# EAGLE library part XF2*-21? (library con-omron)
OMRON FPC Connector Source : http://www.omron.com/ecb/products/pdf/fpc.pdf
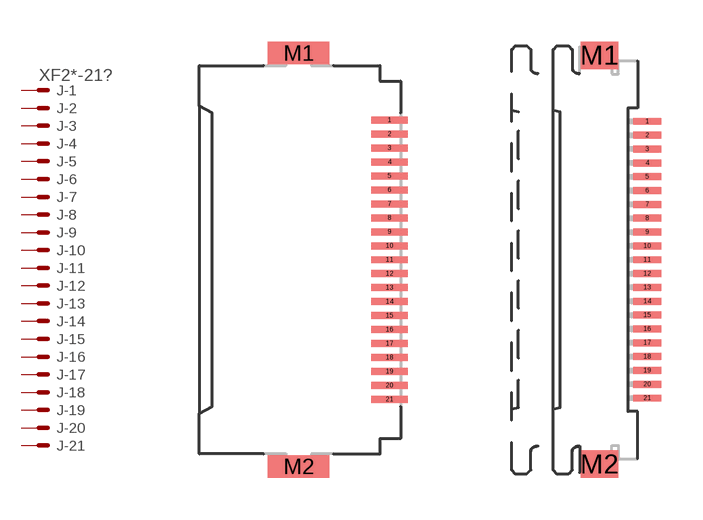
[diagram p14: symbol with the pads of XF2H-2115-1LW; footprints XF2H-2115-1LW, XF2L-2125-1]

Designator prefix J; gates -1=PV -2=P -3=P -4=P -5=P -6=P -7=P -8=P -9=P -10=P -11=P -12=P -13=P -14=P -15=P -16=P -17=P -18=P -19=P -20=P -21=P

## XF2H-2115-1LW (OC_FARNELL: unknown; OC_NEWARK: unknown)  [XF2H-2115-1LW]
1  -1:MSV  pas
2  -2:MS  pas
3  -3:MS  pas
4  -4:MS  pas
5  -5:MS  pas
6  -6:MS  pas
7  -7:MS  pas
8  -8:MS  pas
9  -9:MS  pas
10  -10:MS  pas
11  -11:MS  pas
12  -12:MS  pas
13  -13:MS  pas
14  -14:MS  pas
15  -15:MS  pas
16  -16:MS  pas
17  -17:MS  pas
18  -18:MS  pas
19  -19:MS  pas
20  -20:MS  pas
21  -21:MS  pas

## XF2L-2125-1 (MPN: XF2L-2125-1; OC_FARNELL: unknown; OC_NEWARK: 37M0895)  [XF2L-2125-1]
Pads as for XF2H-2115-1LW

## XF2N-2115-3 (MPN: XF2N-2115-3; OC_FARNELL: unknown; OC_NEWARK: 37M0941)  [XF2N-2115-3]
Pads as for XF2H-2115-1LW

## XF2C-2155-41A (MPN: XF2C-2155-41A; OC_FARNELL: unknown; OC_NEWARK: 78M3583)  [XF2C-2155-41A]
Pads as for XF2H-2115-1LW

## Footprint XF2H-2115-1LW (pad centres in mm)
Standard Rotary Backlock Type (0.5 mm-pitch) Source : http://www.omron.com/ecb/products/pdf/fpc.pdf
smd 1.3 x 0.25: 1 3.175,5; 2 3.175,4.5; 3 3.175,4; 4 3.175,3.5; 5 3.175,3; 6 3.175,2.5; 7 3.175,2; 8 3.175,1.5; 9 3.175,1; 10 3.175,0.5; 11 3.175,0; 12 3.175,-0.5; 13 3.175,-1; 14 3.175,-1.5; 15 3.175,-2; 16 3.175,-2.5; 17 3.175,-3; 18 3.175,-3.5; 19 3.175,-4; 20 3.175,-4.5; 21 3.175,-5
smd 2.2 x 0.8: M1 -0.075,7.4; M2 -0.075,-7.4

## Footprint XF2L-2125-1 (pad centres in mm)
ZIF Slide-locking Type (0.5 mm-pitch) Upper-contact Type Source : http://www.omron.com/ecb/products/pdf/fpc.pdf
smd 1 x 0.25: 1 1.905,5; 2 1.905,4.5; 3 1.905,4; 4 1.905,3.5; 5 1.905,3; 6 1.905,2.5; 7 1.905,2; 8 1.905,1.5; 9 1.905,1; 10 1.905,0.5; 11 1.905,0; 12 1.905,-0.5; 13 1.905,-1; 14 1.905,-1.5; 15 1.905,-2; 16 1.905,-2.5; 17 1.905,-3; 18 1.905,-3.5; 19 1.905,-4; 20 1.905,-4.5; 21 1.905,-5
smd 1.34 x 1: M1 0.18,7.388; M2 0.18,-7.388

## Footprint XF2N-2115-3 (pad centres in mm)
Low-profile Rotary Backlock Type (0.5 mm-pitch) Source : http://www.omron.com/ecb/products/pdf/fpc.pdf
smd 1 x 0.25: 1 2.54,5; 2 2.54,4.5; 3 2.54,4; 4 2.54,3.5; 5 2.54,3; 6 2.54,2.5; 7 2.54,2; 8 2.54,1.5; 9 2.54,1; 10 2.54,0.5; 11 2.54,0; 12 2.54,-0.5; 13 2.54,-1; 14 2.54,-1.5; 15 2.54,-2; 16 2.54,-2.5; 17 2.54,-3; 18 2.54,-3.5; 19 2.54,-4; 20 2.54,-4.5; 21 2.54,-5
smd 1.4 x 1: M1 -0.61,6.4; M2 -0.61,-6.4

## Footprint XF2C-2155-41A (pad centres in mm)
Low-profile Rotary Backlock Type (0.3 mm-pitch) Source : http://www.omron.com/ecb/products/pdf/fpc.pdf
smd 0.6 x 0.26: 1 -1.8,3; 3 -1.8,2.4; 5 -1.8,1.8; 7 -1.8,1.2; 9 -1.8,0.6; 11 -1.8,0; 13 -1.8,-0.6; 15 -1.8,-1.2; 17 -1.8,-1.8; 19 -1.8,-2.4; 21 -1.8,-3
smd 0.9 x 0.25: 2 1.65,2.7; 4 1.65,2.1; 6 1.65,1.5; 8 1.65,0.9; 10 1.65,0.3; 12 1.65,-0.3; 14 1.65,-0.9; 16 1.65,-1.5; 18 1.65,-2.1; 20 1.65,-2.7